# Altium footprint library MLACHM_M.PCBLIB: 91 footprints (part 7 of 7)
Each footprint in its own frame and in the unit in brackets; x right, y up, seen from the top. Pads: shape width x height; smd on the part's side, far side on the other; paste and mask are expansions set on the pad; w line width, h text height; cw(c..) or ccw(c..) is an arc to the next point about the centre after c.
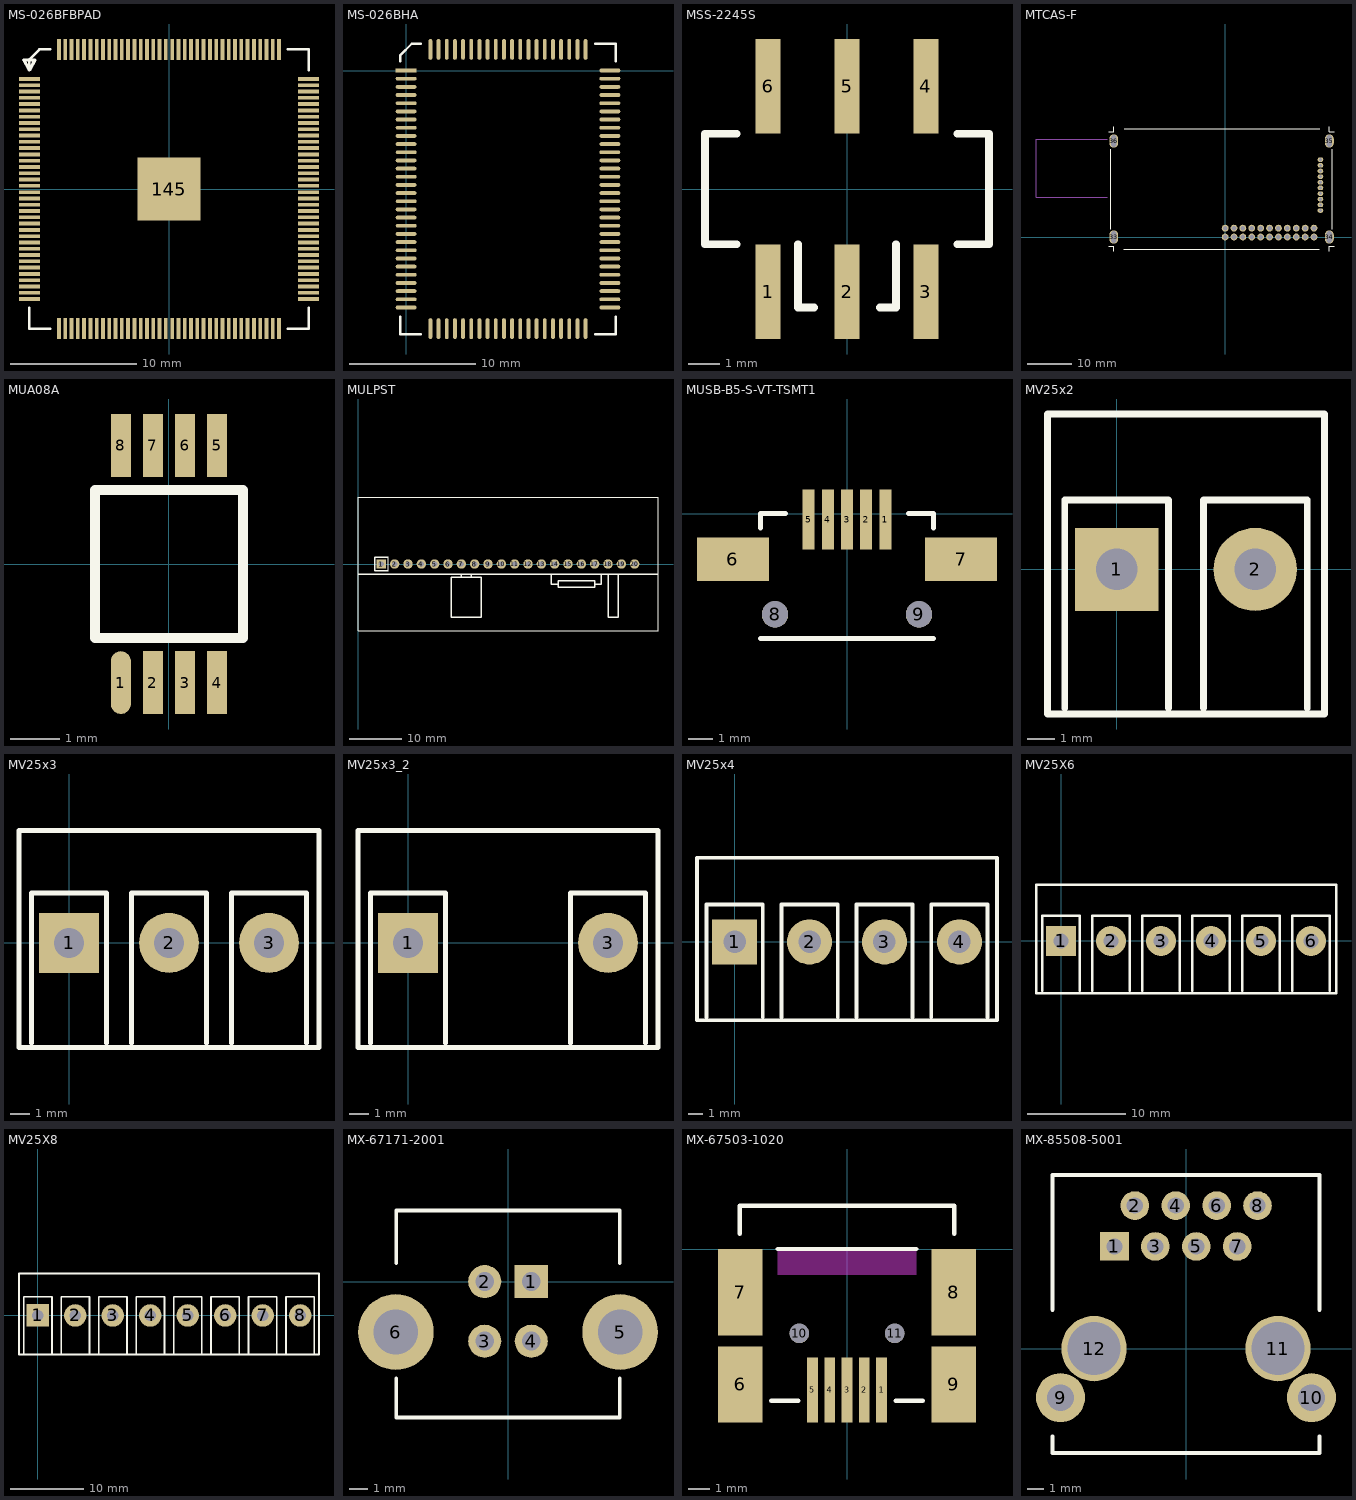
[diagram p6: the footprints below, top view; thin cyan lines are the x and y axes]

## MS-026BFBPAD [mm]
pads (145):
  rect 1.651x0.3 smd: 1(-11.1,8.75) 2(-11.1,8.25) 3(-11.1,7.75) 4(-11.1,7.25) 5(-11.1,6.75) 6(-11.1,6.25) 7(-11.1,5.75) 8(-11.1,5.25) 9(-11.1,4.75) 10(-11.1,4.25) 11(-11.1,3.75) 12(-11.1,3.25) 13(-11.1,2.75) 14(-11.1,2.25) 15(-11.1,1.75) 16(-11.1,1.25) 17(-11.1,0.75) 18(-11.1,0.25) 19(-11.1,-0.25) 20(-11.1,-0.75) 21(-11.1,-1.25) 22(-11.1,-1.75) 23(-11.1,-2.25) 24(-11.1,-2.75) 25(-11.1,-3.25) 26(-11.1,-3.75) 27(-11.1,-4.25) 28(-11.1,-4.75) 29(-11.1,-5.25) 30(-11.1,-5.75) 31(-11.1,-6.25) 32(-11.1,-6.75) 33(-11.1,-7.25) 34(-11.1,-7.75) 35(-11.1,-8.25) 36(-11.1,-8.75) 73(11.1,-8.75) 74(11.1,-8.25) 75(11.1,-7.75) 76(11.1,-7.25) 77(11.1,-6.75) 78(11.1,-6.25) 79(11.1,-5.75) 80(11.1,-5.25) 81(11.1,-4.75) 82(11.1,-4.25) 83(11.1,-3.75) 84(11.1,-3.25) 85(11.1,-2.75) 86(11.1,-2.25) 87(11.1,-1.75) 88(11.1,-1.25) 89(11.1,-0.75) 90(11.1,-0.25) 91(11.1,0.25) 92(11.1,0.75) 93(11.1,1.25) 94(11.1,1.75) 95(11.1,2.25) 96(11.1,2.75) 97(11.1,3.25) 98(11.1,3.75) 99(11.1,4.25) 100(11.1,4.75) 101(11.1,5.25) 102(11.1,5.75) 103(11.1,6.25) 104(11.1,6.75) 105(11.1,7.25) 106(11.1,7.75) 107(11.1,8.25) 108(11.1,8.75)
  rect 0.3x1.651 smd: 37(-8.75,-11.1) 38(-8.25,-11.1) 39(-7.75,-11.1) 40(-7.25,-11.1) 41(-6.75,-11.1) 42(-6.25,-11.1) 43(-5.75,-11.1) 44(-5.25,-11.1) 45(-4.75,-11.1) 46(-4.25,-11.1) 47(-3.75,-11.1) 48(-3.25,-11.1) 49(-2.75,-11.1) 50(-2.25,-11.1) 51(-1.75,-11.1) 52(-1.25,-11.1) 53(-0.75,-11.1) 54(-0.25,-11.1) 55(0.25,-11.1) 56(0.75,-11.1) 57(1.25,-11.1) 58(1.75,-11.1) 59(2.25,-11.1) 60(2.75,-11.1) 61(3.25,-11.1) 62(3.75,-11.1) 63(4.25,-11.1) 64(4.75,-11.1) 65(5.25,-11.1) 66(5.75,-11.1) 67(6.25,-11.1) 68(6.75,-11.1) 69(7.25,-11.1) 70(7.75,-11.1) 71(8.25,-11.1) 72(8.75,-11.1) 109(8.75,11.1) 110(8.25,11.1) 111(7.75,11.1) 112(7.25,11.1) 113(6.75,11.1) 114(6.25,11.1) 115(5.75,11.1) 116(5.25,11.1) 117(4.75,11.1) 118(4.25,11.1) 119(3.75,11.1) 120(3.25,11.1) 121(2.75,11.1) 122(2.25,11.1) 123(1.75,11.1) 124(1.25,11.1) 125(0.75,11.1) 126(0.25,11.1) 127(-0.25,11.1) 128(-0.75,11.1) 129(-1.25,11.1) 130(-1.75,11.1) 131(-2.25,11.1) 132(-2.75,11.1) 133(-3.25,11.1) 134(-3.75,11.1) 135(-4.25,11.1) 136(-4.75,11.1) 137(-5.25,11.1) 138(-5.75,11.1) 139(-6.25,11.1) 140(-6.75,11.1) 141(-7.25,11.1) 142(-7.75,11.1) 143(-8.25,11.1) 144(-8.75,11.1)
  rect 5x5 smd: 145(0,0)
TopOverlay:
  lines w0.2: -11.1,-9.45 -11.1,-11.1 -9.45,-11.1 ; -11.1,9.45 -11.1,10.3 -10.3,11.1 -9.45,11.1 ; 9.45,-11.1 11.1,-11.1 11.1,-9.45 ; 9.45,11.1 11.1,11.1 11.1,9.45
  lines w0.25: -11.55,10.25 -11.1,9.45 -10.65,10.25 -11.55,10.25
3D body: height 1.2, standoff 0.1, extent -10.3,-10.3 10.3,10.3
3D body: height 0.63, standoff 0.38, extent 8.65,10.25 8.85,10.65
3D body: height 0.63, standoff 0, extent 8.65,10.5 8.85,10.65
3D body: height 0.15, standoff 0, extent 8.65,10.5 8.85,11.25
3D body: height 0.63, standoff 0.38, extent 8.15,10.25 8.35,10.65
3D body: height 0.63, standoff 0, extent 8.15,10.5 8.35,10.65
3D body: height 0.15, standoff 0, extent 8.15,10.5 8.35,11.25
3D body: height 0.15, standoff 0, extent 7.15,10.5 7.35,11.25
3D body: height 0.63, standoff 0, extent 7.15,10.5 7.35,10.65
3D body: height 0.63, standoff 0.38, extent 7.15,10.25 7.35,10.65
3D body: height 0.15, standoff 0, extent 7.65,10.5 7.85,11.25
3D body: height 0.63, standoff 0, extent 7.65,10.5 7.85,10.65
3D body: height 0.63, standoff 0.38, extent 7.65,10.25 7.85,10.65
3D body: height 0.63, standoff 0.38, extent 5.65,10.25 5.85,10.65
3D body: height 0.63, standoff 0, extent 5.65,10.5 5.85,10.65
3D body: height 0.15, standoff 0, extent 5.65,10.5 5.85,11.25
3D body: height 0.63, standoff 0.38, extent 5.15,10.25 5.35,10.65
3D body: height 0.63, standoff 0, extent 5.15,10.5 5.35,10.65
3D body: height 0.15, standoff 0, extent 5.15,10.5 5.35,11.25
3D body: height 0.15, standoff 0, extent 6.15,10.5 6.35,11.25
3D body: height 0.63, standoff 0, extent 6.15,10.5 6.35,10.65
3D body: height 0.63, standoff 0.38, extent 6.15,10.25 6.35,10.65
3D body: height 0.15, standoff 0, extent 6.65,10.5 6.85,11.25
3D body: height 0.63, standoff 0, extent 6.65,10.5 6.85,10.65
3D body: height 0.63, standoff 0.38, extent 6.65,10.25 6.85,10.65
3D body: height 0.63, standoff 0.38, extent 3.65,10.25 3.85,10.65
3D body: height 0.63, standoff 0, extent 3.65,10.5 3.85,10.65
3D body: height 0.15, standoff 0, extent 3.65,10.5 3.85,11.25
3D body: height 0.63, standoff 0.38, extent 3.15,10.25 3.35,10.65
3D body: height 0.63, standoff 0, extent 3.15,10.5 3.35,10.65
3D body: height 0.15, standoff 0, extent 3.15,10.5 3.35,11.25
3D body: height 0.15, standoff 0, extent 4.15,10.5 4.35,11.25
3D body: height 0.63, standoff 0, extent 4.15,10.5 4.35,10.65
3D body: height 0.63, standoff 0.38, extent 4.15,10.25 4.35,10.65
3D body: height 0.15, standoff 0, extent 4.65,10.5 4.85,11.25
3D body: height 0.63, standoff 0, extent 4.65,10.5 4.85,10.65
3D body: height 0.63, standoff 0.38, extent 4.65,10.25 4.85,10.65
3D body: height 0.63, standoff 0.38, extent 1.65,10.25 1.85,10.65
3D body: height 0.63, standoff 0, extent 1.65,10.5 1.85,10.65
3D body: height 0.15, standoff 0, extent 1.65,10.5 1.85,11.25
3D body: height 0.63, standoff 0.38, extent 1.15,10.25 1.35,10.65
3D body: height 0.63, standoff 0, extent 1.15,10.5 1.35,10.65
3D body: height 0.15, standoff 0, extent 1.15,10.5 1.35,11.25
3D body: height 0.15, standoff 0, extent 2.15,10.5 2.35,11.25
3D body: height 0.63, standoff 0, extent 2.15,10.5 2.35,10.65
3D body: height 0.63, standoff 0.38, extent 2.15,10.25 2.35,10.65
3D body: height 0.15, standoff 0, extent 2.65,10.5 2.85,11.25
3D body: height 0.63, standoff 0, extent 2.65,10.5 2.85,10.65
3D body: height 0.63, standoff 0.38, extent 2.65,10.25 2.85,10.65
3D body: height 0.63, standoff 0.38, extent -0.35,10.25 -0.15,10.65
3D body: height 0.63, standoff 0, extent -0.35,10.5 -0.15,10.65
3D body: height 0.15, standoff 0, extent -0.35,10.5 -0.15,11.25
3D body: height 0.63, standoff 0.38, extent -0.85,10.25 -0.65,10.65
3D body: height 0.63, standoff 0, extent -0.85,10.5 -0.65,10.65
3D body: height 0.15, standoff 0, extent -0.85,10.5 -0.65,11.25
3D body: height 0.15, standoff 0, extent 0.15,10.5 0.35,11.25
3D body: height 0.63, standoff 0, extent 0.15,10.5 0.35,10.65
3D body: height 0.63, standoff 0.38, extent 0.15,10.25 0.35,10.65
3D body: height 0.15, standoff 0, extent 0.65,10.5 0.85,11.25
3D body: height 0.63, standoff 0, extent 0.65,10.5 0.85,10.65
3D body: height 0.63, standoff 0.38, extent 0.65,10.25 0.85,10.65
3D body: height 0.63, standoff 0.38, extent -2.35,10.25 -2.15,10.65
3D body: height 0.63, standoff 0, extent -2.35,10.5 -2.15,10.65
3D body: height 0.15, standoff 0, extent -2.35,10.5 -2.15,11.25
3D body: height 0.63, standoff 0.38, extent -2.85,10.25 -2.65,10.65
3D body: height 0.63, standoff 0, extent -2.85,10.5 -2.65,10.65
3D body: height 0.15, standoff 0, extent -2.85,10.5 -2.65,11.25
3D body: height 0.15, standoff 0, extent -1.85,10.5 -1.65,11.25
3D body: height 0.63, standoff 0, extent -1.85,10.5 -1.65,10.65
3D body: height 0.63, standoff 0.38, extent -1.85,10.25 -1.65,10.65
3D body: height 0.15, standoff 0, extent -1.35,10.5 -1.15,11.25
3D body: height 0.63, standoff 0, extent -1.35,10.5 -1.15,10.65
3D body: height 0.63, standoff 0.38, extent -1.35,10.25 -1.15,10.65
3D body: height 0.63, standoff 0.38, extent -4.35,10.25 -4.15,10.65
3D body: height 0.63, standoff 0, extent -4.35,10.5 -4.15,10.65
3D body: height 0.15, standoff 0, extent -4.35,10.5 -4.15,11.25
3D body: height 0.63, standoff 0.38, extent -4.85,10.25 -4.65,10.65
3D body: height 0.63, standoff 0, extent -4.85,10.5 -4.65,10.65
3D body: height 0.15, standoff 0, extent -4.85,10.5 -4.65,11.25
3D body: height 0.15, standoff 0, extent -3.85,10.5 -3.65,11.25
3D body: height 0.63, standoff 0, extent -3.85,10.5 -3.65,10.65
3D body: height 0.63, standoff 0.38, extent -3.85,10.25 -3.65,10.65
3D body: height 0.15, standoff 0, extent -3.35,10.5 -3.15,11.25
3D body: height 0.63, standoff 0, extent -3.35,10.5 -3.15,10.65
3D body: height 0.63, standoff 0.38, extent -3.35,10.25 -3.15,10.65
3D body: height 0.63, standoff 0.38, extent -6.35,10.25 -6.15,10.65
3D body: height 0.63, standoff 0, extent -6.35,10.5 -6.15,10.65
3D body: height 0.15, standoff 0, extent -6.35,10.5 -6.15,11.25
3D body: height 0.63, standoff 0.38, extent -6.85,10.25 -6.65,10.65
3D body: height 0.63, standoff 0, extent -6.85,10.5 -6.65,10.65
3D body: height 0.15, standoff 0, extent -6.85,10.5 -6.65,11.25
3D body: height 0.15, standoff 0, extent -5.85,10.5 -5.65,11.25
3D body: height 0.63, standoff 0, extent -5.85,10.5 -5.65,10.65
3D body: height 0.63, standoff 0.38, extent -5.85,10.25 -5.65,10.65
3D body: height 0.15, standoff 0, extent -5.35,10.5 -5.15,11.25
3D body: height 0.63, standoff 0, extent -5.35,10.5 -5.15,10.65
3D body: height 0.63, standoff 0.38, extent -5.35,10.25 -5.15,10.65
3D body: height 0.63, standoff 0.38, extent -8.35,10.25 -8.15,10.65
3D body: height 0.63, standoff 0, extent -8.35,10.5 -8.15,10.65
3D body: height 0.15, standoff 0, extent -8.35,10.5 -8.15,11.25
3D body: height 0.63, standoff 0.38, extent -8.85,10.25 -8.65,10.65
3D body: height 0.63, standoff 0, extent -8.85,10.5 -8.65,10.65
3D body: height 0.15, standoff 0, extent -8.85,10.5 -8.65,11.25
3D body: height 0.15, standoff 0, extent -7.85,10.5 -7.65,11.25
3D body: height 0.63, standoff 0, extent -7.85,10.5 -7.65,10.65
3D body: height 0.63, standoff 0.38, extent -7.85,10.25 -7.65,10.65
3D body: height 0.15, standoff 0, extent -7.35,10.5 -7.15,11.25
3D body: height 0.63, standoff 0, extent -7.35,10.5 -7.15,10.65
3D body: height 0.63, standoff 0.38, extent -7.35,10.25 -7.15,10.65
3D body: height 0.63, standoff 0.38, extent 10.25,-8.85 10.65,-8.65
3D body: height 0.63, standoff 0, extent 10.5,-8.85 10.65,-8.65
3D body: height 0.15, standoff 0, extent 10.5,-8.85 11.25,-8.65
3D body: height 0.63, standoff 0.38, extent 10.25,-8.35 10.65,-8.15
3D body: height 0.63, standoff 0, extent 10.5,-8.35 10.65,-8.15
3D body: height 0.15, standoff 0, extent 10.5,-8.35 11.25,-8.15
3D body: height 0.15, standoff 0, extent 10.5,-7.35 11.25,-7.15
3D body: height 0.63, standoff 0, extent 10.5,-7.35 10.65,-7.15
3D body: height 0.63, standoff 0.38, extent 10.25,-7.35 10.65,-7.15
3D body: height 0.15, standoff 0, extent 10.5,-7.85 11.25,-7.65
3D body: height 0.63, standoff 0, extent 10.5,-7.85 10.65,-7.65
3D body: height 0.63, standoff 0.38, extent 10.25,-7.85 10.65,-7.65
3D body: height 0.63, standoff 0.38, extent 10.25,-5.85 10.65,-5.65
3D body: height 0.63, standoff 0, extent 10.5,-5.85 10.65,-5.65
3D body: height 0.15, standoff 0, extent 10.5,-5.85 11.25,-5.65
3D body: height 0.63, standoff 0.38, extent 10.25,-5.35 10.65,-5.15
3D body: height 0.63, standoff 0, extent 10.5,-5.35 10.65,-5.15
3D body: height 0.15, standoff 0, extent 10.5,-5.35 11.25,-5.15
3D body: height 0.15, standoff 0, extent 10.5,-6.35 11.25,-6.15
3D body: height 0.63, standoff 0, extent 10.5,-6.35 10.65,-6.15
3D body: height 0.63, standoff 0.38, extent 10.25,-6.35 10.65,-6.15
3D body: height 0.15, standoff 0, extent 10.5,-6.85 11.25,-6.65
3D body: height 0.63, standoff 0, extent 10.5,-6.85 10.65,-6.65
3D body: height 0.63, standoff 0.38, extent 10.25,-6.85 10.65,-6.65
3D body: height 0.63, standoff 0.38, extent 10.25,-3.85 10.65,-3.65
3D body: height 0.63, standoff 0, extent 10.5,-3.85 10.65,-3.65
3D body: height 0.15, standoff 0, extent 10.5,-3.85 11.25,-3.65
3D body: height 0.63, standoff 0.38, extent 10.25,-3.35 10.65,-3.15
3D body: height 0.63, standoff 0, extent 10.5,-3.35 10.65,-3.15
3D body: height 0.15, standoff 0, extent 10.5,-3.35 11.25,-3.15
3D body: height 0.15, standoff 0, extent 10.5,-4.35 11.25,-4.15
3D body: height 0.63, standoff 0, extent 10.5,-4.35 10.65,-4.15
3D body: height 0.63, standoff 0.38, extent 10.25,-4.35 10.65,-4.15
3D body: height 0.15, standoff 0, extent 10.5,-4.85 11.25,-4.65
3D body: height 0.63, standoff 0, extent 10.5,-4.85 10.65,-4.65
3D body: height 0.63, standoff 0.38, extent 10.25,-4.85 10.65,-4.65
3D body: height 0.63, standoff 0.38, extent 10.25,-1.85 10.65,-1.65
3D body: height 0.63, standoff 0, extent 10.5,-1.85 10.65,-1.65
3D body: height 0.15, standoff 0, extent 10.5,-1.85 11.25,-1.65
3D body: height 0.63, standoff 0.38, extent 10.25,-1.35 10.65,-1.15
3D body: height 0.63, standoff 0, extent 10.5,-1.35 10.65,-1.15
3D body: height 0.15, standoff 0, extent 10.5,-1.35 11.25,-1.15
3D body: height 0.15, standoff 0, extent 10.5,-2.35 11.25,-2.15
3D body: height 0.63, standoff 0, extent 10.5,-2.35 10.65,-2.15
3D body: height 0.63, standoff 0.38, extent 10.25,-2.35 10.65,-2.15
3D body: height 0.15, standoff 0, extent 10.5,-2.85 11.25,-2.65
3D body: height 0.63, standoff 0, extent 10.5,-2.85 10.65,-2.65
3D body: height 0.63, standoff 0.38, extent 10.25,-2.85 10.65,-2.65
3D body: height 0.63, standoff 0.38, extent 10.25,0.15 10.65,0.35
3D body: height 0.63, standoff 0, extent 10.5,0.15 10.65,0.35
3D body: height 0.15, standoff 0, extent 10.5,0.15 11.25,0.35
3D body: height 0.63, standoff 0.38, extent 10.25,0.65 10.65,0.85
3D body: height 0.63, standoff 0, extent 10.5,0.65 10.65,0.85
3D body: height 0.15, standoff 0, extent 10.5,0.65 11.25,0.85
3D body: height 0.15, standoff 0, extent 10.5,-0.35 11.25,-0.15
3D body: height 0.63, standoff 0, extent 10.5,-0.35 10.65,-0.15
3D body: height 0.63, standoff 0.38, extent 10.25,-0.35 10.65,-0.15
3D body: height 0.15, standoff 0, extent 10.5,-0.85 11.25,-0.65
3D body: height 0.63, standoff 0, extent 10.5,-0.85 10.65,-0.65
3D body: height 0.63, standoff 0.38, extent 10.25,-0.85 10.65,-0.65
3D body: height 0.63, standoff 0.38, extent 10.25,2.15 10.65,2.35
3D body: height 0.63, standoff 0, extent 10.5,2.15 10.65,2.35
3D body: height 0.15, standoff 0, extent 10.5,2.15 11.25,2.35
3D body: height 0.63, standoff 0.38, extent 10.25,2.65 10.65,2.85
3D body: height 0.63, standoff 0, extent 10.5,2.65 10.65,2.85
3D body: height 0.15, standoff 0, extent 10.5,2.65 11.25,2.85
3D body: height 0.15, standoff 0, extent 10.5,1.65 11.25,1.85
3D body: height 0.63, standoff 0, extent 10.5,1.65 10.65,1.85
3D body: height 0.63, standoff 0.38, extent 10.25,1.65 10.65,1.85
3D body: height 0.15, standoff 0, extent 10.5,1.15 11.25,1.35
3D body: height 0.63, standoff 0, extent 10.5,1.15 10.65,1.35
3D body: height 0.63, standoff 0.38, extent 10.25,1.15 10.65,1.35
3D body: height 0.63, standoff 0.38, extent 10.25,4.15 10.65,4.35
3D body: height 0.63, standoff 0, extent 10.5,4.15 10.65,4.35
3D body: height 0.15, standoff 0, extent 10.5,4.15 11.25,4.35
3D body: height 0.63, standoff 0.38, extent 10.25,4.65 10.65,4.85
3D body: height 0.63, standoff 0, extent 10.5,4.65 10.65,4.85
3D body: height 0.15, standoff 0, extent 10.5,4.65 11.25,4.85
3D body: height 0.15, standoff 0, extent 10.5,3.65 11.25,3.85
3D body: height 0.63, standoff 0, extent 10.5,3.65 10.65,3.85
3D body: height 0.63, standoff 0.38, extent 10.25,3.65 10.65,3.85
3D body: height 0.15, standoff 0, extent 10.5,3.15 11.25,3.35
3D body: height 0.63, standoff 0, extent 10.5,3.15 10.65,3.35
3D body: height 0.63, standoff 0.38, extent 10.25,3.15 10.65,3.35
3D body: height 0.63, standoff 0.38, extent 10.25,6.15 10.65,6.35
3D body: height 0.63, standoff 0, extent 10.5,6.15 10.65,6.35
3D body: height 0.15, standoff 0, extent 10.5,6.15 11.25,6.35
3D body: height 0.63, standoff 0.38, extent 10.25,6.65 10.65,6.85
3D body: height 0.63, standoff 0, extent 10.5,6.65 10.65,6.85
3D body: height 0.15, standoff 0, extent 10.5,6.65 11.25,6.85
3D body: height 0.15, standoff 0, extent 10.5,5.65 11.25,5.85
3D body: height 0.63, standoff 0, extent 10.5,5.65 10.65,5.85
3D body: height 0.63, standoff 0.38, extent 10.25,5.65 10.65,5.85
3D body: height 0.15, standoff 0, extent 10.5,5.15 11.25,5.35
3D body: height 0.63, standoff 0, extent 10.5,5.15 10.65,5.35
3D body: height 0.63, standoff 0.38, extent 10.25,5.15 10.65,5.35
3D body: height 0.63, standoff 0.38, extent 10.25,8.15 10.65,8.35
3D body: height 0.63, standoff 0, extent 10.5,8.15 10.65,8.35
3D body: height 0.15, standoff 0, extent 10.5,8.15 11.25,8.35
3D body: height 0.63, standoff 0.38, extent 10.25,8.65 10.65,8.85
3D body: height 0.63, standoff 0, extent 10.5,8.65 10.65,8.85
3D body: height 0.15, standoff 0, extent 10.5,8.65 11.25,8.85
3D body: height 0.15, standoff 0, extent 10.5,7.65 11.25,7.85
3D body: height 0.63, standoff 0, extent 10.5,7.65 10.65,7.85
3D body: height 0.63, standoff 0.38, extent 10.25,7.65 10.65,7.85
3D body: height 0.15, standoff 0, extent 10.5,7.15 11.25,7.35
3D body: height 0.63, standoff 0, extent 10.5,7.15 10.65,7.35
3D body: height 0.63, standoff 0.38, extent 10.25,7.15 10.65,7.35
3D body: height 0.63, standoff 0.38, extent -8.85,-10.65 -8.65,-10.25
3D body: height 0.63, standoff 0, extent -8.85,-10.65 -8.65,-10.5
3D body: height 0.15, standoff 0, extent -8.85,-11.25 -8.65,-10.5
3D body: height 0.63, standoff 0.38, extent -8.35,-10.65 -8.15,-10.25
3D body: height 0.63, standoff 0, extent -8.35,-10.65 -8.15,-10.5
3D body: height 0.15, standoff 0, extent -8.35,-11.25 -8.15,-10.5
3D body: height 0.15, standoff 0, extent -7.35,-11.25 -7.15,-10.5
3D body: height 0.63, standoff 0, extent -7.35,-10.65 -7.15,-10.5
3D body: height 0.63, standoff 0.38, extent -7.35,-10.65 -7.15,-10.25
3D body: height 0.15, standoff 0, extent -7.85,-11.25 -7.65,-10.5
3D body: height 0.63, standoff 0, extent -7.85,-10.65 -7.65,-10.5
3D body: height 0.63, standoff 0.38, extent -7.85,-10.65 -7.65,-10.25
3D body: height 0.63, standoff 0.38, extent -5.85,-10.65 -5.65,-10.25
3D body: height 0.63, standoff 0, extent -5.85,-10.65 -5.65,-10.5
3D body: height 0.15, standoff 0, extent -5.85,-11.25 -5.65,-10.5
3D body: height 0.63, standoff 0.38, extent -5.35,-10.65 -5.15,-10.25
3D body: height 0.63, standoff 0, extent -5.35,-10.65 -5.15,-10.5
3D body: height 0.15, standoff 0, extent -5.35,-11.25 -5.15,-10.5
3D body: height 0.15, standoff 0, extent -6.35,-11.25 -6.15,-10.5
3D body: height 0.63, standoff 0, extent -6.35,-10.65 -6.15,-10.5
3D body: height 0.63, standoff 0.38, extent -6.35,-10.65 -6.15,-10.25
3D body: height 0.15, standoff 0, extent -6.85,-11.25 -6.65,-10.5
3D body: height 0.63, standoff 0, extent -6.85,-10.65 -6.65,-10.5
3D body: height 0.63, standoff 0.38, extent -6.85,-10.65 -6.65,-10.25
3D body: height 0.63, standoff 0.38, extent -3.85,-10.65 -3.65,-10.25
3D body: height 0.63, standoff 0, extent -3.85,-10.65 -3.65,-10.5
3D body: height 0.15, standoff 0, extent -3.85,-11.25 -3.65,-10.5
3D body: height 0.63, standoff 0.38, extent -3.35,-10.65 -3.15,-10.25
3D body: height 0.63, standoff 0, extent -3.35,-10.65 -3.15,-10.5
3D body: height 0.15, standoff 0, extent -3.35,-11.25 -3.15,-10.5
3D body: height 0.15, standoff 0, extent -4.35,-11.25 -4.15,-10.5
3D body: height 0.63, standoff 0, extent -4.35,-10.65 -4.15,-10.5
3D body: height 0.63, standoff 0.38, extent -4.35,-10.65 -4.15,-10.25
3D body: height 0.15, standoff 0, extent -4.85,-11.25 -4.65,-10.5
3D body: height 0.63, standoff 0, extent -4.85,-10.65 -4.65,-10.5
3D body: height 0.63, standoff 0.38, extent -4.85,-10.65 -4.65,-10.25
3D body: height 0.63, standoff 0.38, extent -1.85,-10.65 -1.65,-10.25
3D body: height 0.63, standoff 0, extent -1.85,-10.65 -1.65,-10.5
3D body: height 0.15, standoff 0, extent -1.85,-11.25 -1.65,-10.5
3D body: height 0.63, standoff 0.38, extent -1.35,-10.65 -1.15,-10.25
3D body: height 0.63, standoff 0, extent -1.35,-10.65 -1.15,-10.5
3D body: height 0.15, standoff 0, extent -1.35,-11.25 -1.15,-10.5
3D body: height 0.15, standoff 0, extent -2.35,-11.25 -2.15,-10.5
3D body: height 0.63, standoff 0, extent -2.35,-10.65 -2.15,-10.5
3D body: height 0.63, standoff 0.38, extent -2.35,-10.65 -2.15,-10.25
3D body: height 0.15, standoff 0, extent -2.85,-11.25 -2.65,-10.5
3D body: height 0.63, standoff 0, extent -2.85,-10.65 -2.65,-10.5
3D body: height 0.63, standoff 0.38, extent -2.85,-10.65 -2.65,-10.25
3D body: height 0.63, standoff 0.38, extent 0.15,-10.65 0.35,-10.25
3D body: height 0.63, standoff 0, extent 0.15,-10.65 0.35,-10.5
3D body: height 0.15, standoff 0, extent 0.15,-11.25 0.35,-10.5
3D body: height 0.63, standoff 0.38, extent 0.65,-10.65 0.85,-10.25
3D body: height 0.63, standoff 0, extent 0.65,-10.65 0.85,-10.5
3D body: height 0.15, standoff 0, extent 0.65,-11.25 0.85,-10.5
3D body: height 0.15, standoff 0, extent -0.35,-11.25 -0.15,-10.5
3D body: height 0.63, standoff 0, extent -0.35,-10.65 -0.15,-10.5
3D body: height 0.63, standoff 0.38, extent -0.35,-10.65 -0.15,-10.25
3D body: height 0.15, standoff 0, extent -0.85,-11.25 -0.65,-10.5
3D body: height 0.63, standoff 0, extent -0.85,-10.65 -0.65,-10.5
3D body: height 0.63, standoff 0.38, extent -0.85,-10.65 -0.65,-10.25
3D body: height 0.63, standoff 0.38, extent 2.15,-10.65 2.35,-10.25
3D body: height 0.63, standoff 0, extent 2.15,-10.65 2.35,-10.5
3D body: height 0.15, standoff 0, extent 2.15,-11.25 2.35,-10.5
3D body: height 0.63, standoff 0.38, extent 2.65,-10.65 2.85,-10.25
3D body: height 0.63, standoff 0, extent 2.65,-10.65 2.85,-10.5
3D body: height 0.15, standoff 0, extent 2.65,-11.25 2.85,-10.5
3D body: height 0.15, standoff 0, extent 1.65,-11.25 1.85,-10.5
3D body: height 0.63, standoff 0, extent 1.65,-10.65 1.85,-10.5
3D body: height 0.63, standoff 0.38, extent 1.65,-10.65 1.85,-10.25
3D body: height 0.15, standoff 0, extent 1.15,-11.25 1.35,-10.5
3D body: height 0.63, standoff 0, extent 1.15,-10.65 1.35,-10.5
3D body: height 0.63, standoff 0.38, extent 1.15,-10.65 1.35,-10.25
3D body: height 0.63, standoff 0.38, extent 4.15,-10.65 4.35,-10.25
3D body: height 0.63, standoff 0, extent 4.15,-10.65 4.35,-10.5
3D body: height 0.15, standoff 0, extent 4.15,-11.25 4.35,-10.5
3D body: height 0.63, standoff 0.38, extent 4.65,-10.65 4.85,-10.25
3D body: height 0.63, standoff 0, extent 4.65,-10.65 4.85,-10.5
3D body: height 0.15, standoff 0, extent 4.65,-11.25 4.85,-10.5
3D body: height 0.15, standoff 0, extent 3.65,-11.25 3.85,-10.5
3D body: height 0.63, standoff 0, extent 3.65,-10.65 3.85,-10.5
3D body: height 0.63, standoff 0.38, extent 3.65,-10.65 3.85,-10.25
3D body: height 0.15, standoff 0, extent 3.15,-11.25 3.35,-10.5
3D body: height 0.63, standoff 0, extent 3.15,-10.65 3.35,-10.5
3D body: height 0.63, standoff 0.38, extent 3.15,-10.65 3.35,-10.25
3D body: height 0.63, standoff 0.38, extent 6.15,-10.65 6.35,-10.25
3D body: height 0.63, standoff 0, extent 6.15,-10.65 6.35,-10.5
3D body: height 0.15, standoff 0, extent 6.15,-11.25 6.35,-10.5
3D body: height 0.63, standoff 0.38, extent 6.65,-10.65 6.85,-10.25
3D body: height 0.63, standoff 0, extent 6.65,-10.65 6.85,-10.5
3D body: height 0.15, standoff 0, extent 6.65,-11.25 6.85,-10.5
3D body: height 0.15, standoff 0, extent 5.65,-11.25 5.85,-10.5
3D body: height 0.63, standoff 0, extent 5.65,-10.65 5.85,-10.5
3D body: height 0.63, standoff 0.38, extent 5.65,-10.65 5.85,-10.25
3D body: height 0.15, standoff 0, extent 5.15,-11.25 5.35,-10.5
3D body: height 0.63, standoff 0, extent 5.15,-10.65 5.35,-10.5
3D body: height 0.63, standoff 0.38, extent 5.15,-10.65 5.35,-10.25
3D body: height 0.63, standoff 0.38, extent 8.15,-10.65 8.35,-10.25
3D body: height 0.63, standoff 0, extent 8.15,-10.65 8.35,-10.5
3D body: height 0.15, standoff 0, extent 8.15,-11.25 8.35,-10.5
3D body: height 0.63, standoff 0.38, extent 8.65,-10.65 8.85,-10.25
3D body: height 0.63, standoff 0, extent 8.65,-10.65 8.85,-10.5
3D body: height 0.15, standoff 0, extent 8.65,-11.25 8.85,-10.5
3D body: height 0.15, standoff 0, extent 7.65,-11.25 7.85,-10.5
3D body: height 0.63, standoff 0, extent 7.65,-10.65 7.85,-10.5
3D body: height 0.63, standoff 0.38, extent 7.65,-10.65 7.85,-10.25
3D body: height 0.15, standoff 0, extent 7.15,-11.25 7.35,-10.5
3D body: height 0.63, standoff 0, extent 7.15,-10.65 7.35,-10.5
3D body: height 0.63, standoff 0.38, extent 7.15,-10.65 7.35,-10.25
3D body: height 0.63, standoff 0.38, extent -10.65,-7.35 -10.25,-7.15
3D body: height 0.63, standoff 0, extent -10.65,-7.35 -10.5,-7.15
3D body: height 0.15, standoff 0, extent -11.25,-7.35 -10.5,-7.15
3D body: height 0.63, standoff 0.38, extent -10.65,-7.85 -10.25,-7.65
3D body: height 0.63, standoff 0, extent -10.65,-7.85 -10.5,-7.65
3D body: height 0.15, standoff 0, extent -11.25,-7.85 -10.5,-7.65
3D body: height 0.15, standoff 0, extent -11.25,-8.85 -10.5,-8.65
3D body: height 0.63, standoff 0, extent -10.65,-8.85 -10.5,-8.65
3D body: height 0.63, standoff 0.38, extent -10.65,-8.85 -10.25,-8.65
3D body: height 0.15, standoff 0, extent -11.25,-8.35 -10.5,-8.15
3D body: height 0.63, standoff 0, extent -10.65,-8.35 -10.5,-8.15
3D body: height 0.63, standoff 0.38, extent -10.65,-8.35 -10.25,-8.15
3D body: height 0.63, standoff 0.38, extent -10.65,-5.35 -10.25,-5.15
3D body: height 0.63, standoff 0, extent -10.65,-5.35 -10.5,-5.15
3D body: height 0.15, standoff 0, extent -11.25,-5.35 -10.5,-5.15
3D body: height 0.63, standoff 0.38, extent -10.65,-5.85 -10.25,-5.65
3D body: height 0.63, standoff 0, extent -10.65,-5.85 -10.5,-5.65
3D body: height 0.15, standoff 0, extent -11.25,-5.85 -10.5,-5.65
3D body: height 0.15, standoff 0, extent -11.25,-6.85 -10.5,-6.65
3D body: height 0.63, standoff 0, extent -10.65,-6.85 -10.5,-6.65
3D body: height 0.63, standoff 0.38, extent -10.65,-6.85 -10.25,-6.65
3D body: height 0.15, standoff 0, extent -11.25,-6.35 -10.5,-6.15
3D body: height 0.63, standoff 0, extent -10.65,-6.35 -10.5,-6.15
3D body: height 0.63, standoff 0.38, extent -10.65,-6.35 -10.25,-6.15
3D body: height 0.63, standoff 0.38, extent -10.65,-3.35 -10.25,-3.15
3D body: height 0.63, standoff 0, extent -10.65,-3.35 -10.5,-3.15
3D body: height 0.15, standoff 0, extent -11.25,-3.35 -10.5,-3.15
3D body: height 0.63, standoff 0.38, extent -10.65,-3.85 -10.25,-3.65
3D body: height 0.63, standoff 0, extent -10.65,-3.85 -10.5,-3.65
3D body: height 0.15, standoff 0, extent -11.25,-3.85 -10.5,-3.65
3D body: height 0.15, standoff 0, extent -11.25,-4.85 -10.5,-4.65
3D body: height 0.63, standoff 0, extent -10.65,-4.85 -10.5,-4.65
3D body: height 0.63, standoff 0.38, extent -10.65,-4.85 -10.25,-4.65
3D body: height 0.15, standoff 0, extent -11.25,-4.35 -10.5,-4.15
3D body: height 0.63, standoff 0, extent -10.65,-4.35 -10.5,-4.15
3D body: height 0.63, standoff 0.38, extent -10.65,-4.35 -10.25,-4.15
3D body: height 0.63, standoff 0.38, extent -10.65,-1.35 -10.25,-1.15
3D body: height 0.63, standoff 0, extent -10.65,-1.35 -10.5,-1.15
3D body: height 0.15, standoff 0, extent -11.25,-1.35 -10.5,-1.15
3D body: height 0.63, standoff 0.38, extent -10.65,-1.85 -10.25,-1.65
3D body: height 0.63, standoff 0, extent -10.65,-1.85 -10.5,-1.65
3D body: height 0.15, standoff 0, extent -11.25,-1.85 -10.5,-1.65
3D body: height 0.15, standoff 0, extent -11.25,-2.85 -10.5,-2.65
3D body: height 0.63, standoff 0, extent -10.65,-2.85 -10.5,-2.65
3D body: height 0.63, standoff 0.38, extent -10.65,-2.85 -10.25,-2.65
3D body: height 0.15, standoff 0, extent -11.25,-2.35 -10.5,-2.15
3D body: height 0.63, standoff 0, extent -10.65,-2.35 -10.5,-2.15
3D body: height 0.63, standoff 0.38, extent -10.65,-2.35 -10.25,-2.15
3D body: height 0.63, standoff 0.38, extent -10.65,0.65 -10.25,0.85
3D body: height 0.63, standoff 0, extent -10.65,0.65 -10.5,0.85
3D body: height 0.15, standoff 0, extent -11.25,0.65 -10.5,0.85
3D body: height 0.63, standoff 0.38, extent -10.65,0.15 -10.25,0.35
3D body: height 0.63, standoff 0, extent -10.65,0.15 -10.5,0.35
3D body: height 0.15, standoff 0, extent -11.25,0.15 -10.5,0.35
3D body: height 0.15, standoff 0, extent -11.25,-0.85 -10.5,-0.65
3D body: height 0.63, standoff 0, extent -10.65,-0.85 -10.5,-0.65
3D body: height 0.63, standoff 0.38, extent -10.65,-0.85 -10.25,-0.65
3D body: height 0.15, standoff 0, extent -11.25,-0.35 -10.5,-0.15
3D body: height 0.63, standoff 0, extent -10.65,-0.35 -10.5,-0.15
3D body: height 0.63, standoff 0.38, extent -10.65,-0.35 -10.25,-0.15
3D body: height 0.63, standoff 0.38, extent -10.65,2.65 -10.25,2.85
3D body: height 0.63, standoff 0, extent -10.65,2.65 -10.5,2.85
3D body: height 0.15, standoff 0, extent -11.25,2.65 -10.5,2.85
3D body: height 0.63, standoff 0.38, extent -10.65,2.15 -10.25,2.35
3D body: height 0.63, standoff 0, extent -10.65,2.15 -10.5,2.35
3D body: height 0.15, standoff 0, extent -11.25,2.15 -10.5,2.35
3D body: height 0.15, standoff 0, extent -11.25,1.15 -10.5,1.35
3D body: height 0.63, standoff 0, extent -10.65,1.15 -10.5,1.35
3D body: height 0.63, standoff 0.38, extent -10.65,1.15 -10.25,1.35
3D body: height 0.15, standoff 0, extent -11.25,1.65 -10.5,1.85
3D body: height 0.63, standoff 0, extent -10.65,1.65 -10.5,1.85
3D body: height 0.63, standoff 0.38, extent -10.65,1.65 -10.25,1.85
3D body: height 0.63, standoff 0.38, extent -10.65,4.65 -10.25,4.85
3D body: height 0.63, standoff 0, extent -10.65,4.65 -10.5,4.85
3D body: height 0.15, standoff 0, extent -11.25,4.65 -10.5,4.85
3D body: height 0.63, standoff 0.38, extent -10.65,4.15 -10.25,4.35
3D body: height 0.63, standoff 0, extent -10.65,4.15 -10.5,4.35
3D body: height 0.15, standoff 0, extent -11.25,4.15 -10.5,4.35
3D body: height 0.15, standoff 0, extent -11.25,3.15 -10.5,3.35
3D body: height 0.63, standoff 0, extent -10.65,3.15 -10.5,3.35
3D body: height 0.63, standoff 0.38, extent -10.65,3.15 -10.25,3.35
3D body: height 0.15, standoff 0, extent -11.25,3.65 -10.5,3.85
3D body: height 0.63, standoff 0, extent -10.65,3.65 -10.5,3.85
3D body: height 0.63, standoff 0.38, extent -10.65,3.65 -10.25,3.85
3D body: height 0.63, standoff 0.38, extent -10.65,6.65 -10.25,6.85
3D body: height 0.63, standoff 0, extent -10.65,6.65 -10.5,6.85
3D body: height 0.15, standoff 0, extent -11.25,6.65 -10.5,6.85
3D body: height 0.63, standoff 0.38, extent -10.65,6.15 -10.25,6.35
3D body: height 0.63, standoff 0, extent -10.65,6.15 -10.5,6.35
3D body: height 0.15, standoff 0, extent -11.25,6.15 -10.5,6.35
3D body: height 0.15, standoff 0, extent -11.25,5.15 -10.5,5.35
3D body: height 0.63, standoff 0, extent -10.65,5.15 -10.5,5.35
3D body: height 0.63, standoff 0.38, extent -10.65,5.15 -10.25,5.35
3D body: height 0.15, standoff 0, extent -11.25,5.65 -10.5,5.85
3D body: height 0.63, standoff 0, extent -10.65,5.65 -10.5,5.85
3D body: height 0.63, standoff 0.38, extent -10.65,5.65 -10.25,5.85
3D body: height 0.63, standoff 0.38, extent -10.65,7.65 -10.25,7.85
3D body: height 0.63, standoff 0, extent -10.65,7.65 -10.5,7.85
3D body: height 0.15, standoff 0, extent -11.25,7.65 -10.5,7.85
3D body: height 0.63, standoff 0.38, extent -10.65,7.15 -10.25,7.35
3D body: height 0.63, standoff 0, extent -10.65,7.15 -10.5,7.35
3D body: height 0.15, standoff 0, extent -11.25,7.15 -10.5,7.35
3D body: height 0.15, standoff 0, extent -11.25,8.15 -10.5,8.35
3D body: height 0.63, standoff 0, extent -10.65,8.15 -10.5,8.35
3D body: height 0.63, standoff 0.38, extent -10.65,8.15 -10.25,8.35
3D body: height 0.15, standoff 0, extent -11.25,8.65 -10.5,8.85
3D body: height 0.63, standoff 0, extent -10.65,8.65 -10.5,8.85
3D body: height 0.63, standoff 0.38, extent -10.65,8.65 -10.25,8.85

## MS-026BHA [mil]
pads (100):
  rect 65x12 smd: 1(0,0)
  oval 65x12 smd: 2(0,-25.59) 3(0,-51.18) 4(0,-76.77) 5(0,-102.36) 6(0,-127.95) 7(0,-153.54) 8(0,-179.13) 9(0,-204.72) 10(0,-230.31) 11(0,-255.91) 12(0,-281.5) 13(0,-307.09) 14(0,-332.68) 15(0,-358.27) 16(0,-383.86) 17(0,-409.45) 18(0,-435.04) 19(0,-460.63) 20(0,-486.22) 21(0,-511.81) 22(0,-537.4) 23(0,-562.99) 24(0,-588.58) 25(0,-614.17) 26(0,-639.76) 27(0,-665.36) 28(0,-690.95) 29(0,-716.54) 30(0,-742.13) 51(638.19,-742.13) 52(638.19,-716.54) 53(638.19,-690.95) 54(638.19,-665.36) 55(638.19,-639.76) 56(638.19,-614.17) 57(638.19,-588.58) 58(638.19,-562.99) 59(638.19,-537.4) 60(638.19,-511.81) 61(638.19,-486.22) 62(638.19,-460.63) 63(638.19,-435.04) 64(638.19,-409.45) 65(638.19,-383.86) 66(638.19,-358.27) 67(638.19,-332.68) 68(638.19,-307.09) 69(638.19,-281.5) 70(638.19,-255.91) 71(638.19,-230.31) 72(638.19,-204.72) 73(638.19,-179.13) 74(638.19,-153.54) 75(638.19,-127.95) 76(638.19,-102.36) 77(638.19,-76.77) 78(638.19,-51.18) 79(638.19,-25.59) 80(638.19,0)
  oval 12x65 smd: 31(75.98,-808.27) 32(101.58,-808.27) 33(127.17,-808.27) 34(152.76,-808.27) 35(178.35,-808.27) 36(203.94,-808.27) 37(229.53,-808.27) 38(255.12,-808.27) 39(280.71,-808.27) 40(306.3,-808.27) 41(331.89,-808.27) 42(357.48,-808.27) 43(383.07,-808.27) 44(408.66,-808.27) 45(434.25,-808.27) 46(459.84,-808.27) 47(485.43,-808.27) 48(511.02,-808.27) 49(536.62,-808.27) 50(562.21,-808.27) 81(562.21,66.14) 82(536.62,66.14) 83(511.02,66.14) 84(485.43,66.14) 85(459.84,66.14) 86(434.25,66.14) 87(408.66,66.14) 88(383.07,66.14) 89(357.48,66.14) 90(331.89,66.14) 91(306.3,66.14) 92(280.71,66.14) 93(255.12,66.14) 94(229.53,66.14) 95(203.94,66.14) 96(178.35,66.14) 97(152.76,66.14) 98(127.17,66.14) 99(101.58,66.14) 100(75.98,66.14)
TopOverlay:
  lines w7.87: -17.72,-771.65 -17.72,-825.99 46.46,-825.99 ; -17.72,29.53 -17.72,48.43 17.72,83.86 46.46,83.86 ; 591.73,-825.99 655.91,-825.99 655.91,-771.65 ; 591.73,83.86 655.91,83.86 655.91,29.53

## MSS-2245S [mm]
pads (6):
  rect 0.8x3 smd: 1(-2.5,-3.25) 2(0,-3.25) 3(2.5,-3.25) 4(2.5,3.25) 5(0,3.25) 6(-2.5,3.25)
TopOverlay:
  lines w0.25: -3.5,-1.75 -4.5,-1.75 -4.5,0 -4.5,1.75 -3.5,1.75 ; -1.55,-1.75 -1.55,-3.75 -1.05,-3.75 ; 1.05,-3.75 1.55,-3.75 1.55,-1.75 ; 3.5,-1.75 4.5,-1.75 4.5,0 4.5,1.75 3.5,1.75

## MTCAS-F [mm]
pads (36):
  round 1.524 hole 1.016: 1(0,0) 2(0,2) 3(2,0) 4(2,2) 5(4,0) 6(4,2) 7(6,0) 8(6,2) 9(8,0) 10(8,2) 11(10,0) 12(10,2) 13(12,0) 14(12,2) 15(14,0) 16(14,2) 17(16,0) 18(16,2) 19(18,0) 20(18,2) 21(20,0) 22(20,2)
  oval 1.27x1.016 hole 0.7: 23(21.45,5.96) 24(21.45,7.23) 25(21.45,8.5) 26(21.45,9.77) 27(21.45,11.04) 28(21.45,12.31) 29(21.45,13.58) 30(21.45,14.85) 31(21.45,16.12) 32(21.45,17.39)
  oval 2x3 hole 1.2 slot 2.6 at 90 deg: 33(-25.05,0) 34(23.45,0) 35(23.45,21.6) 36(-25.05,21.6)
TopOverlay:
  lines w0.254: -26.15,-2.1 -25.05,-2.1 -25.05,-3.2 ; -26.15,23.7 -25.05,23.7 -25.05,24.8 ; -25.75,1.8 -25.75,19.8 ; -22.8,-2.8 21.2,-2.8 ; -22.75,24.4 21.25,24.4 ; 23.45,-3.2 23.45,-2.1 24.55,-2.1 ; 23.45,24.8 23.45,23.7 24.55,23.7 ; 24.15,1.8 24.15,19.8
Mechanical2:
  lines w0.254: -26.5,9 -42.55,9 -42.55,22 -26.5,22

## MUA08A [mm]
pads (8):
  oval 0.406x1.27 smd: 1(-0.975,-2.4)
  rect 0.406x1.27 smd: 2(-0.325,-2.4) 3(0.325,-2.4) 4(0.975,-2.4) 5(0.975,2.4) 6(0.325,2.4) 7(-0.325,2.4) 8(-0.975,2.4)
TopOverlay:
  lines w0.203: -1.5,-1.5 -1.5,1.5 1.5,1.5 1.5,-1.5 -1.5,-1.5

## MULPST [mil]
pads (20):
  rect 70x70 hole 40: 1(175,0)
  round 70 hole 40: 2(275,0) 3(375,0) 4(475,0) 5(575,0) 6(675,0) 7(775,0) 8(875,0) 9(975,0) 10(1075,0) 11(1175,0) 12(1275,0) 13(1375,0) 14(1475,0) 15(1575,0) 16(1675,0) 17(1775,0) 18(1875,0) 19(1975,0) 20(2075,0)
TopOverlay:
  lines w8: 225,-50 225,50 ; 0,-500 2250,-500 2250,500 0,500 0,-500
  lines w10: 0,-75 2250,-75 ; 225,-50 125,-50 125,50 225,50 ; 775,-100 775,-75 ; 850,-100 850,-75 ; 1450,-75 1450,-150 1500,-150 ; 1775,-150 1825,-150 1825,-75 ; 1875,-75 1875,-400 1950,-400 1950,-75 ; 700,-400 700,-100 925,-100 925,-400 700,-400 ; 1500,-175 1500,-125 1775,-125 1775,-175 1500,-175

## MUSB-B5-S-VT-TSMT1 [mm]
pads (9):
  rect 0.5x2.5 smd: 1(1.6,-0.25) 2(0.8,-0.25) 3(0,-0.25) 4(-0.8,-0.25) 5(-1.6,-0.25)
  rect 3x1.8 smd: 6(-4.75,-1.9) 7(4.75,-1.9)
  round 1.1 hole 1.1 mask+0.3: 8(-3,-4.2) 9(3,-4.2)
TopOverlay:
  lines w0.2: -3.6,-5.2 3.6,-5.2 ; -3.6,-0.6 -3.6,0 -2.55,0 ; 2.55,0 3.6,0 3.6,-0.6
3D body: height 8, standoff 0, extent -3.6,-5.2 3.6,0
3D body: height 7, standoff 0, extent -2.25,-3.55 2.25,-1.625
3D body: height 0.25, standoff 0, extent 3.6,-2.8 6,-1
3D body: height 0.25, standoff 0, extent -6,-2.8 -3.6,-1
3D body: height 2, standoff 0, extent -3.6,-5.2 3.6,0
3D body: height 0.3, standoff 0, extent 1.45,-1.35 1.75,0.85
3D body: height 0.3, standoff 0, extent 0.65,-1.35 0.95,0.85
3D body: height 0.3, standoff 0, extent -1.75,-1.35 -1.45,0.85
3D body: height 0.3, standoff 0, extent -0.95,-1.35 -0.65,0.85
3D body: height 0.3, standoff 0, extent -0.15,-1.35 0.15,0.85

## MV25x2 [mil]
pads (2):
  rect 120x120 hole 60: 1(0,0)
  round 120 hole 60: 2(200,0)
TopOverlay:
  lines w10: -75,-200 -75,100 75,100 75,-200 ; 125,-200 125,100 275,100 275,-200 ; -100,-208.66 -100,224.41 300,224.41 300,-208.66 -100,-208.66

## MV25x3 [mil]
pads (3):
  rect 120x120 hole 60: 1(0,0)
  round 120 hole 60: 2(200,0) 3(400,0)
TopOverlay:
  lines w10: -75,-200 -75,100 75,100 75,-200 ; 125,-200 125,100 275,100 275,-200 ; 325,-200 325,100 475,100 475,-200 ; -100,-208.66 -100,224.41 500,224.41 500,-208.66 -100,-208.66

## MV25x3_2 [mil]
pads (2):
  rect 120x120 hole 60: 1(0,0)
  round 120 hole 60: 3(400,0)
TopOverlay:
  lines w10: -75,-200 -75,100 75,100 75,-200 ; 325,-200 325,100 475,100 475,-200 ; -100,-208.66 500,-208.66 500,224.41 -100,224.41 -100,-208.66
3D body: height 629.92, standoff 0, extent -92.13,-141.73 498.43,147.64
3D body: height 688.98, standoff 570.87, extent -52.45,-58.55 65.05,59.06
3D body: height 688.98, standoff 570.87, extent 144.4,-58.55 261.9,59.06
3D body: height 688.98, standoff 570.87, extent 341.25,-58.55 458.75,59.06

## MV25x4 [mil]
pads (4):
  rect 120x120 hole 60: 1(0,0)
  round 120 hole 60: 2(200,0) 3(400,0) 4(600,0)
TopOverlay:
  lines w10: -75,-200 -75,100 75,100 75,-200 ; 125,-200 125,100 275,100 275,-200 ; 325,-200 325,100 475,100 475,-200 ; 525,-200 525,100 675,100 675,-200 ; -100,-208.66 700,-208.66 700,224.41 -100,224.41 -100,-208.66

## MV25X6 [mil]
pads (6):
  rect 120x120 hole 60: 1(0,0)
  round 120 hole 60: 2(200,0) 3(400,0) 4(600,0) 5(800,0) 6(1000,0)
TopOverlay:
  lines w10: -75,-200 -75,100 75,100 75,-200 ; 125,-200 125,100 275,100 275,-200 ; 325,-200 325,100 475,100 475,-200 ; 525,-200 525,100 675,100 675,-200 ; 725,-200 725,100 875,100 875,-200 ; 925,-200 925,100 1075,100 1075,-200 ; -100,-208.66 1100,-208.66 1100,224.41 -100,224.41 -100,-208.66

## MV25X8 [mil]
pads (8):
  rect 120x120 hole 60: 1(0,0)
  round 120 hole 60: 2(200,0) 3(400,0) 4(600,0) 5(800,0) 6(1000,0) 7(1200,0) 8(1400,0)
TopOverlay:
  lines w10: -75,-200 -75,100 75,100 75,-200 ; 125,-200 125,100 275,100 275,-200 ; 325,-200 325,100 475,100 475,-200 ; 525,-200 525,100 675,100 675,-200 ; 725,-200 725,100 875,100 875,-200 ; 925,-200 925,100 1075,100 1075,-200 ; 1125,-200 1125,100 1275,100 1275,-200 ; 1325,-200 1325,100 1475,100 1475,-200 ; -100,-208.66 -100,224.41 1500,224.41 1500,-208.66 -100,-208.66

## MX-67171-2001 [mil]
pads (6):
  rect 70x70 hole 40: 1(49.21,0)
  round 70 hole 40: 2(-49.21,0) 3(-49.21,-125.98) 4(49.21,-125.98)
  round 160 hole 94.49: 5(237.01,-106.69) 6(-237.01,-106.69)
TopOverlay:
  lines w8: -236.22,-204.72 -236.22,-287.01 236.22,-287.01 236.22,-204.72 ; -236.22,39.37 -236.22,150 236.22,150 236.22,39.37

## MX-67503-1020 [mm]
pads (11):
  rect 0.5x3 smd: 1(1.6,-6.5) 2(0.8,-6.5) 3(0,-6.5) 4(-0.8,-6.5) 5(-1.6,-6.5)
  rect 2.05x3.5 smd: 6(-4.925,-6.25) 9(4.925,-6.25)
  rect 2.05x4 smd: 7(-4.925,-2) 8(4.925,-2)
  round 0.889 hole 0.9: 10(-2.2,-3.9) 11(2.2,-3.9)
TopLayer keep-out:
  rectangle: -3.2,-1.2 3.2,0
TopOverlay:
  lines w0.2: -4.95,0.7 -4.95,2 4.95,2 4.95,0.7 ; -3.5,-7 -2.25,-7 ; -3.2,0 3.2,0 ; 2.25,-7 3.5,-7
3D body: height 3.9, standoff -1.05, extent -4.95,-7 4.95,2

## MX-85508-5001 [mil]
pads (12):
  rect 70x70 hole 40: 1(-175,250)
  round 70 hole 40: 2(-125,350) 3(-75,250) 4(-25,350) 5(25,250) 6(75,350) 7(125,250) 8(175,350)
  round 120 hole 65: 9(-307.09,-120.08) 10(307.09,-120.08)
  round 160 hole 129.92: 11(225,0) 12(-225,0)
TopOverlay:
  lines w10: -326.77,-215 -326.77,-255.91 326.77,-255.91 326.77,-215 ; -326.77,95 -326.77,425.2 326.77,425.2 326.77,95
3D body: height 649.61, standoff -125.98, extent -326.77,-255.91 326.77,425.2